# Altium schematic symbol library TLRH3AWTTER100F.SchLib: 2 symbols
Pins are listed as number, name and electrical type; pins without a type are passive.

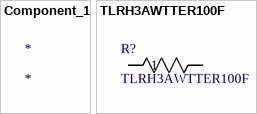
[diagram p0: symbols Component_1 to TLRH3AWTTER100F]

## Component_1
designator *

## TLRH3AWTTER100F
designator R?
No Description Available; Mfr_Name: KOA Speer; Copyright: Copyright (C) 2023 Ultra Librarian. All rights reserved.; Manufacturer_Part_Number: TLRH3AWTTER100F; Digi-Key_Part_Number_1: 2019-TLRH3AWTTER100FTR-ND; Digi-Key_Part_Number_2: 2019-TLRH3AWTTER100FCT-ND; Digi-Key_Part_Number_3: 2019-TLRH3AWTTER100FDKR-ND; RefDes: RefDes; Type: DEV
footprint RES_TLRH_3AW_KOA
pins: 1, 2